# Altium schematic symbol library PIC18F45K50T.SchLib: 1 symbol
Pins are listed as number, name and electrical type; pins without a type are passive.

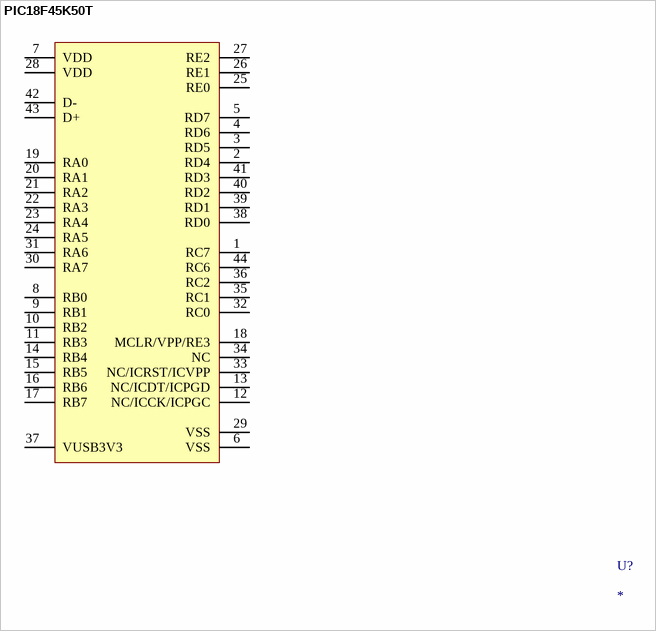
[diagram p0: symbol PIC18F45K50T]

## PIC18F45K50T
designator U?
pins: 1 RC7, 2 RD4, 3 RD5, 4 RD6, 5 RD7, 6 VSS, 7 VDD, 8 RB0, 9 RB1, 10 RB2, 11 RB3, 12 NC/ICCK/ICPGC, 13 NC/ICDT/ICPGD, 14 RB4, 15 RB5, 16 RB6, 17 RB7, 18 MCLR/VPP/RE3, 19 RA0, 20 RA1, 21 RA2, 22 RA3, 23 RA4, 24 RA5, 25 RE0, 26 RE1, 27 RE2, 28 VDD, 29 VSS, 30 RA7, 31 RA6, 32 RC0, 33 NC/ICRST/ICVPP, 34 NC, 35 RC1, 36 RC2, 37 VUSB3V3, 38 RD0, 39 RD1, 40 RD2, 41 RD3, 42 D-, 43 D+, 44 RC6